# Altium footprint library DFS.PcbLib: 1 footprints
Each footprint in its own frame and in the unit in brackets; x right, y up, seen from the top. Pads: shape width x height; smd on the part's side, far side on the other; paste and mask are expansions set on the pad; w line width, h text height; cw(c..) or ccw(c..) is an arc to the next point about the centre after c.
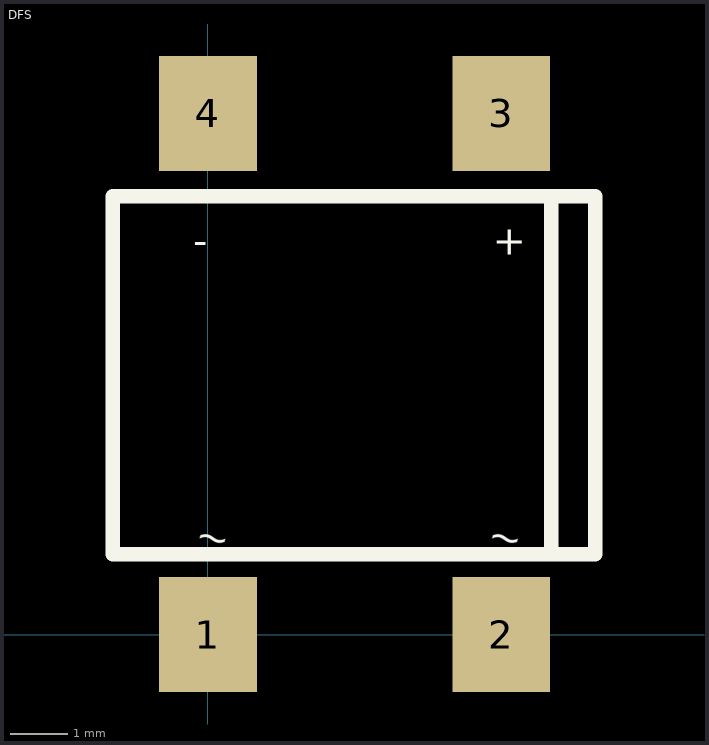
[diagram p0: the footprint, top view; thin cyan lines are the x and y axes]

## DFS [mm]
pads (4):
  rect 1.7x2 smd: 1(0,0) 2(5.1,0) 3(5.1,9.06) 4(0,9.06)
Top Overlay:
  lines w0.25: 5.969,1.524 5.969,7.493 ; -1.651,1.397 6.731,1.397 6.731,7.62 -1.651,7.62 -1.651,1.397
  text "~" at 4.826,1.524 h0.51
  text "~" at -0.254,1.524 h0.51
  text "-" at -0.254,6.604 h0.51
  text "+" at 4.953,6.604 h0.51